# Altium schematic symbol library Diodes.SCHLIB: 6 symbols
Pins are listed as number, name and electrical type; pins without a type are passive.

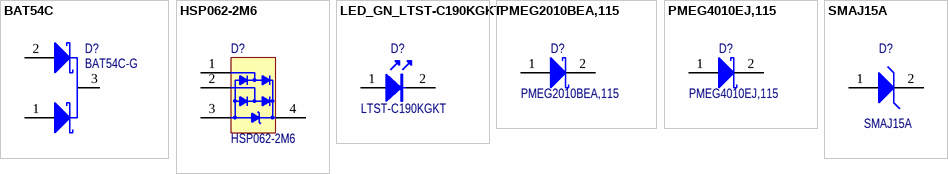
[diagram p0: symbols BAT54C to SMAJ15A]

## BAT54C
designator D?, comment BAT54C-G
Diode; Schottky; Array; Vr=30V; SOT23-3; Manufacturer: Comchip Technology; ComponentLink4Description: Supplier Info; ComponentLink4URL: https://www.digikey.bg/product-detail/en/comchip-technology/BAT54C-G/641-1320-6-ND/1979706; ComponentLink5Description: Datasheet; ComponentLink5URL: https://media.digikey.com/pdf/Data%20Sheets/Comchip%20PDFs/BAT54.pdf; Manufacturer Part Number: BAT54C-G; Supplier 1: Digi-Key; Supplier Part Number 1: 641-1320-6-ND; Value: BAT54C-G
footprint SOT23
pins: 1 A, 2 K, 3 C

## HSP062-2M6
designator D?
Diode; TVS; Vr=3V; Vcl=18V; UQFN6; Manufacturer: STMicroelectronics; ComponentLink4Description: Supplier Info; ComponentLink4URL: https://www.digikey.de/products/en/circuit-protection/tvs-diodes/144?k=HSP062-2M6&k=&pkeyword=HSP062-2M6&sv=0&pv7=243&sf=0&quantity=&ColumnSort=0&page=1&pageSize=25; ComponentLink5Description: Datasheet; ComponentLink5URL: https://www.st.com/content/ccc/resource/technical/document/datasheet/90/b8/52/a8/c1/74/40/7f/DM00047941.pdf/files/DM00047941.pdf/jcr:content/translations/en.DM00047941.pdf; Manufacturer Part Number: HSP062-2M6; Supplier 1: Digi-Key; Supplier Part Number 1: 497-12962-1-ND; Value: HSP062-2M6
footprint ST-uQFN6 (Footprint not found)
pins: 1 I/O1, 2 I/O2, 3 I/O1, 4 VBUS

## LED_GN_LTST-C190KGKT
designator D?, comment LTST-C190KGKT
LED; Green; 571nm; SMD; 0603; Manufacturer: Lite-On Inc.; Manufacturer Part Number: LTST-C190KGKT; ComponentLink4Description: Supplier Info; ComponentLink4URL: https://www.digikey.bg/product-detail/en/LTST-C190KGKT/160-1435-1-ND; ComponentLink5Description: Datasheet; ComponentLink5URL: https://optoelectronics.liteon.com/upload/download/DS22-2000-074/LTST-C190KGKT.PDF; Supplier 1: Digi-Key; Supplier Part Number 1: 160-1435-1-ND; Value: LTST-C190KGKT
footprint LED0603G (LED, 0603, Green)
pins: 1 A, 2 K

## PMEG2010BEA,115
designator D?
Diode; Schottky; Vr=20V; Io=1A; SOD323 [SC70]; Manufacturer: Nexperia USA Inc.; ComponentLink4Description: Supplier Info; ComponentLink4URL: https://www.digikey.de/products/en/discrete-semiconductor-products/diodes-rectifiers-single/280?k=PMEG2010BEA&k=&pkeyword=PMEG2010BEA&sv=0&pv7=243&sf=0&quantity=&ColumnSort=0&page=1&pageSize=25; ComponentLink5Description: Datasheet; ComponentLink5URL: https://assets.nexperia.com/documents/data-sheet/PMEGXX10BEA_PMEGXX10BEV.pdf; Manufacturer Part Number: PMEG2010BEA,115; Supplier 1: Digi-Key; Supplier Part Number 1: 1727-5823-6-ND; Value: PMEG2010BEA,115
footprint SOD323 (Footprint not found)
pins: 1 A, 2 K

## PMEG4010EJ,115
designator D?
Diode; Schottky; Vr=40V; If=1A; SOD323F [SC90]; Manufacturer: Nexperia; ComponentLink4Description: Supplier Info; ComponentLink4URL: https://www.mouser.bg/ProductDetail/Nexperia/PMEG4010EJ115?qs=%2Fha2pyFadujp3dcHNPxbXTWtjIpV5gGISBfzZSsVqiwUpWQ4wIqzCc8n9s%252B9PcII; ComponentLink5Description: Datasheet; ComponentLink5URL: https://www.mouser.bg/datasheet/2/916/PMEG4010EH_EJ_ET-1599884.pdf; Manufacturer Part Number: PMEG4010EJ,115; Supplier 1: Mouser; Supplier Part Number 1: 771-PMEG4010EJ-T/R; Value: PMEG4010EJ,115
pins: 1 A, 2 K

## SMAJ15A
designator D?
Diode; TVS; Vr=15V; Vcl=24.4V; SMA [DO214AC]; Manufacturer: Littelfuse Inc.; ComponentLink4Description: Supplier Info; ComponentLink4URL: https://www.digikey.de/products/en/circuit-protection/tvs-diodes/144?k=SMAJ15A&k=&pkeyword=SMAJ15A&sv=0&v=18&sf=0&FV=1c00f3%2Cffe00090%2C1f140000&quantity=&ColumnSort=0&page=1&pageSize=25; ComponentLink5Description: DataSheet; ComponentLink5URL: https://www.littelfuse.com/~/media/electronics/datasheets/tvs_diodes/littelfuse_tvs_diode_smaj_datasheet.pdf.pdf; Manufacturer Part Number: SMAJ15A; Supplier 1: Digi-Key; Supplier Part Number 1: SMAJ15ALFDKR-ND; Value: SMAJ15A
footprint SMA
pins: 1 A, 2 K